# EAGLE library part NRPN05 (library con-sullins-nrpn)
HEADER
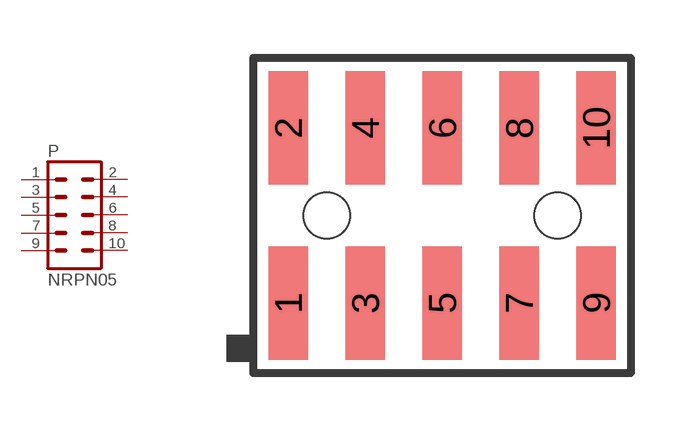
[diagram p2: symbol with the pads of NRPN05; footprint NRPN05]

Designator prefix P

## NRPN05  [NRPN05]
1  1  pas
2  2  pas
3  3  pas
4  4  pas
5  5  pas
6  6  pas
7  7  pas
8  8  pas
9  9  pas
10  10  pas

## Footprint NRPN05 (pad centres in mm)
HEADER
smd 1.02 x 2.95: 1 -4,-2.275; 2 -4,2.275; 3 -2,-2.275; 4 -2,2.275; 5 0,-2.275; 6 0,2.275; 7 2,-2.275; 8 2,2.275; 9 4,-2.275; 10 4,2.275
hole 1.2 at -3,0
hole 1.2 at 3,0